# Altium integrated library ON Semi Transient Voltage Suppressors (TVS).IntLib: 730 symbols (part 2 of 17)
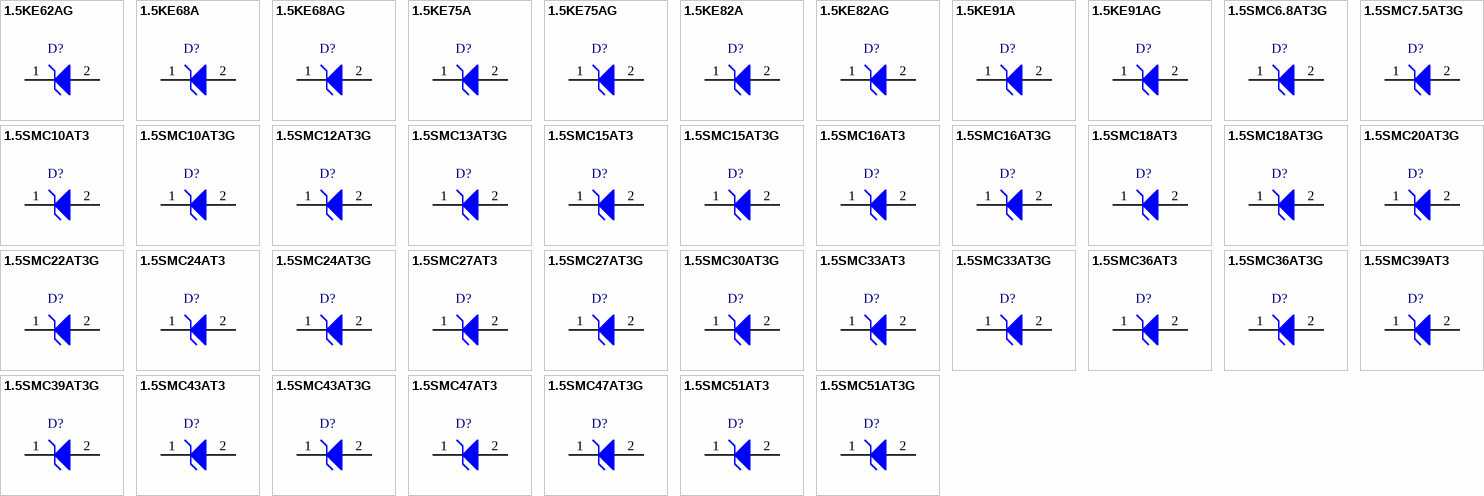
[diagram p19: symbols 1.5KE62AG to 1.5SMC51AT3G]

## 1.5SMC7.5AT3G
designator D?
1500 W Peak Power Zener Transient Voltage Suppressor, Unidirectional, 2-Pin SMC, Pb-Free, Tape and Reel; Manufacturer: On Semiconductor; PartNumber: 1.5SMC7.5AT3G; IR Max (uA): 500; PPK Max (W): 1500; V(BR) Typ (V): 7.5; DatasheetVersion: Rev. 10; PackageVersion: Rev. E, 08/2005; PackageReference: SMC-2-403-03; PackageDescription: 2-Pin Small Molded Package, J-Bend Lead, Body 5.845 x 6.855 mm; Supplier 1: Digi-Key; Supplier Part Number 1: 1.5SMC7.5AT3G-ND; Supplier 2: Newark; Supplier Part Number 2: 42K2809; Supplier 3: Mouser; Supplier Part Number 3: 863-1.5SMC7.5AT3G; Direction: Unidirectional; Packing: Tape and Reel; RoHS: Pb-Free; Mounting Technology: Surface Mount; ComponentLink1Description: Manufacturer URL; ComponentLink1URL: http://www.onsemi.com/; ComponentLink2Description: Datasheet; ComponentLink2URL: http://www.onsemi.com/pub_link/Collateral/1.5SMC6.8AT3-D.PDF; ComponentLink3Description: Package Specification; ComponentLink3URL: http://www.onsemi.com/pub_link/Collateral/403-03.PDF
footprint ONSC-SMC-2-403-03_V (Molded, 2-Leads, Body 6.86x5.84mm)
pins: 1 K, 2 A

## 1.5SMC10AT3
designator D?
1500 W Peak Power Zener Transient Voltage Suppressor, Unidirectional, 2-Pin SMC, Tape and Reel; Manufacturer: On Semiconductor; PartNumber: 1.5SMC10AT3; IR Max (uA): 10; PPK Max (W): 1500; DatasheetVersion: Rev. 10; PackageVersion: Rev. E, 08/2005; PackageReference: SMC-2-403-03; PackageDescription: 2-Pin Small Molded Package, J-Bend Lead, Body 5.845 x 6.855 mm; Direction: Unidirectional; Packing: Tape and Reel; V(BR) Typ (V): 10; Mounting Technology: Surface Mount; ComponentLink1Description: Manufacturer URL; ComponentLink1URL: http://www.onsemi.com/; ComponentLink2Description: Datasheet; ComponentLink2URL: http://www.onsemi.com/pub_link/Collateral/1.5SMC6.8AT3-D.PDF; ComponentLink3Description: Package Specification; ComponentLink3URL: http://www.onsemi.com/pub_link/Collateral/403-03.PDF
footprint ONSC-SMC-2-403-03_V (Molded, 2-Leads, Body 6.86x5.84mm)
pins: 1 K, 2 A

## 1.5SMC10AT3G
designator D?
1500 W Peak Power Zener Transient Voltage Suppressor, Unidirectional, 2-Pin SMC, Pb-Free, Tape and Reel; Manufacturer: On Semiconductor; PartNumber: 1.5SMC10AT3G; IR Max (uA): 10; PPK Max (W): 1500; DatasheetVersion: Rev. 10; PackageVersion: Rev. E, 08/2005; PackageReference: SMC-2-403-03; PackageDescription: 2-Pin Small Molded Package, J-Bend Lead, Body 5.845 x 6.855 mm; Supplier 1: Digi-Key; Supplier Part Number 1: 1.5SMC10AT3G-ND; Supplier 2: Newark; Supplier Part Number 2: 14P0412; Supplier 3: Mouser; Supplier Part Number 3: 863-1.5SMC10AT3G; Direction: Unidirectional; Packing: Tape and Reel; RoHS: Pb-Free; V(BR) Typ (V): 10; Mounting Technology: Surface Mount; ComponentLink1Description: Manufacturer URL; ComponentLink1URL: http://www.onsemi.com/; ComponentLink2Description: Datasheet; ComponentLink2URL: http://www.onsemi.com/pub_link/Collateral/1.5SMC6.8AT3-D.PDF; ComponentLink3Description: Package Specification; ComponentLink3URL: http://www.onsemi.com/pub_link/Collateral/403-03.PDF
footprint ONSC-SMC-2-403-03_V (Molded, 2-Leads, Body 6.86x5.84mm)
pins: 1 K, 2 A

## 1.5SMC12AT3G
designator D?
1500 W Peak Power Zener Transient Voltage Suppressor, Unidirectional, 2-Pin SMC, Pb-Free, Tape and Reel; Manufacturer: On Semiconductor; PartNumber: 1.5SMC12AT3G; IR Max (uA): 5; PPK Max (W): 1500; V(BR) Typ (V): 12; DatasheetVersion: Rev. 10; PackageVersion: Rev. E, 08/2005; PackageReference: SMC-2-403-03; PackageDescription: 2-Pin Small Molded Package, J-Bend Lead, Body 5.845 x 6.855 mm; Supplier 1: Digi-Key; Supplier Part Number 1: 1.5SMC12AT3G-ND; Supplier 2: Newark; Supplier Part Number 2: 42K2799; Supplier 3: Mouser; Supplier Part Number 3: 863-1.5SMC12AT3G; Direction: Unidirectional; Packing: Tape and Reel; RoHS: Pb-Free; Mounting Technology: Surface Mount; ComponentLink1Description: Manufacturer URL; ComponentLink1URL: http://www.onsemi.com/; ComponentLink2Description: Datasheet; ComponentLink2URL: http://www.onsemi.com/pub_link/Collateral/1.5SMC6.8AT3-D.PDF; ComponentLink3Description: Package Specification; ComponentLink3URL: http://www.onsemi.com/pub_link/Collateral/403-03.PDF
footprint ONSC-SMC-2-403-03_V (Molded, 2-Leads, Body 6.86x5.84mm)
pins: 1 K, 2 A

## 1.5SMC13AT3G
designator D?
1500 W Peak Power Zener Transient Voltage Suppressor, Unidirectional, 2-Pin SMC, Pb-Free, Tape and Reel; Manufacturer: On Semiconductor; PartNumber: 1.5SMC13AT3G; IR Max (uA): 5; PPK Max (W): 1500; V(BR) Typ (V): 13; DatasheetVersion: Rev. 10; PackageVersion: Rev. E, 08/2005; PackageReference: SMC-2-403-03; PackageDescription: 2-Pin Small Molded Package, J-Bend Lead, Body 5.845 x 6.855 mm; Supplier 1: Digi-Key; Supplier Part Number 1: 1.5SMC13AT3G-ND; Supplier 2: Newark; Supplier Part Number 2: 42K2800; Supplier 3: Mouser; Supplier Part Number 3: 863-1.5SMC13AT3G; Direction: Unidirectional; Packing: Tape and Reel; RoHS: Pb-Free; Mounting Technology: Surface Mount; ComponentLink1Description: Manufacturer URL; ComponentLink1URL: http://www.onsemi.com/; ComponentLink2Description: Datasheet; ComponentLink2URL: http://www.onsemi.com/pub_link/Collateral/1.5SMC6.8AT3-D.PDF; ComponentLink3Description: Package Specification; ComponentLink3URL: http://www.onsemi.com/pub_link/Collateral/403-03.PDF
footprint ONSC-SMC-2-403-03_V (Molded, 2-Leads, Body 6.86x5.84mm)
pins: 1 K, 2 A

## 1.5SMC15AT3
designator D?
1500 W Peak Power Zener Transient Voltage Suppressor, Unidirectional, 2-Pin SMC, Tape and Reel; Manufacturer: On Semiconductor; PartNumber: 1.5SMC15AT3; IR Max (uA): 5; PPK Max (W): 1500; V(BR) Typ (V): 15; DatasheetVersion: Rev. 10; PackageVersion: Rev. E, 08/2005; PackageReference: SMC-2-403-03; PackageDescription: 2-Pin Small Molded Package, J-Bend Lead, Body 5.845 x 6.855 mm; Supplier 1: Digi-Key; Supplier Part Number 1: 1.5SMC15AT3OSCT-ND; Direction: Unidirectional; Packing: Tape and Reel; Mounting Technology: Surface Mount; ComponentLink1Description: Manufacturer URL; ComponentLink1URL: http://www.onsemi.com/; ComponentLink2Description: Datasheet; ComponentLink2URL: http://www.onsemi.com/pub_link/Collateral/1.5SMC6.8AT3-D.PDF; ComponentLink3Description: Package Specification; ComponentLink3URL: http://www.onsemi.com/pub_link/Collateral/403-03.PDF
footprint ONSC-SMC-2-403-03_V (Molded, 2-Leads, Body 6.86x5.84mm)
pins: 1 K, 2 A

## 1.5SMC15AT3G
designator D?
1500 W Peak Power Zener Transient Voltage Suppressor, Unidirectional, 2-Pin SMC, Pb-Free, Tape and Reel; Manufacturer: On Semiconductor; PartNumber: 1.5SMC15AT3G; IR Max (uA): 5; PPK Max (W): 1500; V(BR) Typ (V): 15; DatasheetVersion: Rev. 10; PackageVersion: Rev. E, 08/2005; PackageReference: SMC-2-403-03; PackageDescription: 2-Pin Small Molded Package, J-Bend Lead, Body 5.845 x 6.855 mm; Supplier 1: Digi-Key; Supplier Part Number 1: 1.5SMC15AT3GOSTR-ND; Supplier 2: Digi-Key; Supplier Part Number 2: 1.5SMC15AT3GOSCT-ND; Supplier 3: Digi-Key; Supplier Part Number 3: 1.5SMC15AT3GOSDKR-ND; Supplier 4: Farnell; Supplier Part Number 4: 1651571RL; Supplier 5: Farnell; Supplier Part Number 5: 1651571; Supplier 6: Newark; Supplier Part Number 6: 88H5158; Supplier 7: Mouser; Supplier Part Number 7: 863-1.5SMC15AT3G; Direction: Unidirectional; Packing: Tape and Reel; RoHS: Pb-Free; Mounting Technology: Surface Mount; ComponentLink1Description: Manufacturer URL; ComponentLink1URL: http://www.onsemi.com/; ComponentLink2Description: Datasheet; ComponentLink2URL: http://www.onsemi.com/pub_link/Collateral/1.5SMC6.8AT3-D.PDF; ComponentLink3Description: Package Specification; ComponentLink3URL: http://www.onsemi.com/pub_link/Collateral/403-03.PDF
footprint ONSC-SMC-2-403-03_V (Molded, 2-Leads, Body 6.86x5.84mm)
pins: 1 K, 2 A

## 1.5SMC16AT3
designator D?
1500 W Peak Power Zener Transient Voltage Suppressor, Unidirectional, 2-Pin SMC, Tape and Reel; Manufacturer: On Semiconductor; PartNumber: 1.5SMC16AT3; IR Max (uA): 5; PPK Max (W): 1500; V(BR) Typ (V): 16; DatasheetVersion: Rev. 10; PackageVersion: Rev. E, 08/2005; PackageReference: SMC-2-403-03; PackageDescription: 2-Pin Small Molded Package, J-Bend Lead, Body 5.845 x 6.855 mm; Direction: Unidirectional; Packing: Tape and Reel; Mounting Technology: Surface Mount; ComponentLink1Description: Manufacturer URL; ComponentLink1URL: http://www.onsemi.com/; ComponentLink2Description: Datasheet; ComponentLink2URL: http://www.onsemi.com/pub_link/Collateral/1.5SMC6.8AT3-D.PDF; ComponentLink3Description: Package Specification; ComponentLink3URL: http://www.onsemi.com/pub_link/Collateral/403-03.PDF
footprint ONSC-SMC-2-403-03_V (Molded, 2-Leads, Body 6.86x5.84mm)
pins: 1 K, 2 A

## 1.5SMC16AT3G
designator D?
1500 W Peak Power Zener Transient Voltage Suppressor, Unidirectional, 2-Pin SMC, Pb-Free, Tape and Reel; Manufacturer: On Semiconductor; PartNumber: 1.5SMC16AT3G; IR Max (uA): 5; PPK Max (W): 1500; V(BR) Typ (V): 16; DatasheetVersion: Rev. 10; PackageVersion: Rev. E, 08/2005; PackageReference: SMC-2-403-03; PackageDescription: 2-Pin Small Molded Package, J-Bend Lead, Body 5.845 x 6.855 mm; Supplier 1: Digi-Key; Supplier Part Number 1: 1.5SMC16AT3GOSTR-ND; Supplier 2: Digi-Key; Supplier Part Number 2: 1.5SMC16AT3GOSCT-ND; Supplier 3: Digi-Key; Supplier Part Number 3: 1.5SMC16AT3GOSDKR-ND; Supplier 4: Newark; Supplier Part Number 4: 26K5235; Supplier 5: Newark; Supplier Part Number 5: 10N9617; Supplier 6: Mouser; Supplier Part Number 6: 863-1.5SMC16AT3G; Direction: Unidirectional; Packing: Tape and Reel; RoHS: Pb-Free; Mounting Technology: Surface Mount; ComponentLink1Description: Manufacturer URL; ComponentLink1URL: http://www.onsemi.com/; ComponentLink2Description: Datasheet; ComponentLink2URL: http://www.onsemi.com/pub_link/Collateral/1.5SMC6.8AT3-D.PDF; ComponentLink3Description: Package Specification; ComponentLink3URL: http://www.onsemi.com/pub_link/Collateral/403-03.PDF
footprint ONSC-SMC-2-403-03_V (Molded, 2-Leads, Body 6.86x5.84mm)
pins: 1 K, 2 A

## 1.5SMC18AT3
designator D?
1500 W Peak Power Zener Transient Voltage Suppressor, Unidirectional, 2-Pin SMC, Tape and Reel; Manufacturer: On Semiconductor; PartNumber: 1.5SMC18AT3; IR Max (uA): 5; PPK Max (W): 1500; V(BR) Typ (V): 18; DatasheetVersion: Rev. 10; PackageVersion: Rev. E, 08/2005; PackageReference: SMC-2-403-03; PackageDescription: 2-Pin Small Molded Package, J-Bend Lead, Body 5.845 x 6.855 mm; Supplier 1: Digi-Key; Supplier Part Number 1: 1.5SMC18AT3OSCT-ND; Direction: Unidirectional; Packing: Tape and Reel; Mounting Technology: Surface Mount; ComponentLink1Description: Manufacturer URL; ComponentLink1URL: http://www.onsemi.com/; ComponentLink2Description: Datasheet; ComponentLink2URL: http://www.onsemi.com/pub_link/Collateral/1.5SMC6.8AT3-D.PDF; ComponentLink3Description: Package Specification; ComponentLink3URL: http://www.onsemi.com/pub_link/Collateral/403-03.PDF
footprint ONSC-SMC-2-403-03_V (Molded, 2-Leads, Body 6.86x5.84mm)
pins: 1 K, 2 A

## 1.5SMC18AT3G
designator D?
1500 W Peak Power Zener Transient Voltage Suppressor, Unidirectional, 2-Pin SMC, Pb-Free, Tape and Reel; Manufacturer: On Semiconductor; PartNumber: 1.5SMC18AT3G; IR Max (uA): 5; PPK Max (W): 1500; V(BR) Typ (V): 18; DatasheetVersion: Rev. 10; PackageVersion: Rev. E, 08/2005; PackageReference: SMC-2-403-03; PackageDescription: 2-Pin Small Molded Package, J-Bend Lead, Body 5.845 x 6.855 mm; Supplier 1: Digi-Key; Supplier Part Number 1: 1.5SMC18AT3GOSTR-ND; Supplier 2: Digi-Key; Supplier Part Number 2: 1.5SMC18AT3GOSCT-ND; Supplier 3: Digi-Key; Supplier Part Number 3: 1.5SMC18AT3GOSDKR-ND; Supplier 4: Newark; Supplier Part Number 4: 42K2801; Supplier 5: Mouser; Supplier Part Number 5: 863-1.5SMC18AT3G; Direction: Unidirectional; Packing: Tape and Reel; RoHS: Pb-Free; Mounting Technology: Surface Mount; ComponentLink1Description: Manufacturer URL; ComponentLink1URL: http://www.onsemi.com/; ComponentLink2Description: Datasheet; ComponentLink2URL: http://www.onsemi.com/pub_link/Collateral/1.5SMC6.8AT3-D.PDF; ComponentLink3Description: Package Specification; ComponentLink3URL: http://www.onsemi.com/pub_link/Collateral/403-03.PDF
footprint ONSC-SMC-2-403-03_V (Molded, 2-Leads, Body 6.86x5.84mm)
pins: 1 K, 2 A

## 1.5SMC20AT3G
designator D?
1500 W Peak Power Zener Transient Voltage Suppressor, Unidirectional, 2-Pin SMC, Pb-Free, Tape and Reel; Manufacturer: On Semiconductor; PartNumber: 1.5SMC20AT3G; IR Max (uA): 5; PPK Max (W): 1500; V(BR) Typ (V): 20; DatasheetVersion: Rev. 10; PackageVersion: Rev. E, 08/2005; PackageReference: SMC-2-403-03; PackageDescription: 2-Pin Small Molded Package, J-Bend Lead, Body 5.845 x 6.855 mm; Supplier 1: Digi-Key; Supplier Part Number 1: 1.5SMC20AT3GOSTR-ND; Supplier 2: Digi-Key; Supplier Part Number 2: 1.5SMC20AT3GOSCT-ND; Supplier 3: Digi-Key; Supplier Part Number 3: 1.5SMC20AT3GOSDKR-ND; Supplier 4: Newark; Supplier Part Number 4: 02M6929; Supplier 5: Mouser; Supplier Part Number 5: 863-1.5SMC20AT3G; Direction: Unidirectional; Packing: Tape and Reel; RoHS: Pb-Free; Mounting Technology: Surface Mount; ComponentLink1Description: Manufacturer URL; ComponentLink1URL: http://www.onsemi.com/; ComponentLink2Description: Datasheet; ComponentLink2URL: http://www.onsemi.com/pub_link/Collateral/1.5SMC6.8AT3-D.PDF; ComponentLink3Description: Package Specification; ComponentLink3URL: http://www.onsemi.com/pub_link/Collateral/403-03.PDF
footprint ONSC-SMC-2-403-03_V (Molded, 2-Leads, Body 6.86x5.84mm)
pins: 1 K, 2 A

## 1.5SMC22AT3G
designator D?
1500 W Peak Power Zener Transient Voltage Suppressor, Unidirectional, 2-Pin SMC, Pb-Free, Tape and Reel; Manufacturer: On Semiconductor; PartNumber: 1.5SMC22AT3G; IR Max (uA): 5; PPK Max (W): 1500; V(BR) Typ (V): 22; DatasheetVersion: Rev. 10; PackageVersion: Rev. E, 08/2005; PackageReference: SMC-2-403-03; PackageDescription: 2-Pin Small Molded Package, J-Bend Lead, Body 5.845 x 6.855 mm; Supplier 1: Digi-Key; Supplier Part Number 1: 1.5SMC22AT3GOSTR-ND; Supplier 2: Digi-Key; Supplier Part Number 2: 1.5SMC22AT3GOSCT-ND; Supplier 3: Digi-Key; Supplier Part Number 3: 1.5SMC22AT3GOSDKR-ND; Supplier 4: Farnell; Supplier Part Number 4: 1899529; Supplier 5: Newark; Supplier Part Number 5: 09R9745; Supplier 6: Mouser; Supplier Part Number 6: 863-1.5SMC22AT3G; Direction: Unidirectional; Packing: Tape and Reel; RoHS: Pb-Free; Mounting Technology: Surface Mount; ComponentLink1Description: Manufacturer URL; ComponentLink1URL: http://www.onsemi.com/; ComponentLink2Description: Datasheet; ComponentLink2URL: http://www.onsemi.com/pub_link/Collateral/1.5SMC6.8AT3-D.PDF; ComponentLink3Description: Package Specification; ComponentLink3URL: http://www.onsemi.com/pub_link/Collateral/403-03.PDF
footprint ONSC-SMC-2-403-03_V (Molded, 2-Leads, Body 6.86x5.84mm)
pins: 1 K, 2 A

## 1.5SMC24AT3
designator D?
1500 W Peak Power Zener Transient Voltage Suppressor, Unidirectional, 2-Pin SMC, Tape and Reel; Manufacturer: On Semiconductor; PartNumber: 1.5SMC24AT3; IR Max (uA): 5; PPK Max (W): 1500; V(BR) Typ (V): 24; DatasheetVersion: Rev. 10; PackageVersion: Rev. E, 08/2005; PackageReference: SMC-2-403-03; PackageDescription: 2-Pin Small Molded Package, J-Bend Lead, Body 5.845 x 6.855 mm; Supplier 1: Digi-Key; Supplier Part Number 1: 1.5SMC24AT3OSTR-ND; Supplier 2: Digi-Key; Supplier Part Number 2: 1.5SMC24AT3OSCT-ND; Direction: Unidirectional; Packing: Tape and Reel; Mounting Technology: Surface Mount; ComponentLink1Description: Manufacturer URL; ComponentLink1URL: http://www.onsemi.com/; ComponentLink2Description: Datasheet; ComponentLink2URL: http://www.onsemi.com/pub_link/Collateral/1.5SMC6.8AT3-D.PDF; ComponentLink3Description: Package Specification; ComponentLink3URL: http://www.onsemi.com/pub_link/Collateral/403-03.PDF
footprint ONSC-SMC-2-403-03_V (Molded, 2-Leads, Body 6.86x5.84mm)
pins: 1 K, 2 A

## 1.5SMC24AT3G
designator D?
1500 W Peak Power Zener Transient Voltage Suppressor, Unidirectional, 2-Pin SMC, Pb-Free, Tape and Reel; Manufacturer: On Semiconductor; PartNumber: 1.5SMC24AT3G; IR Max (uA): 5; PPK Max (W): 1500; V(BR) Typ (V): 24; DatasheetVersion: Rev. 10; PackageVersion: Rev. E, 08/2005; PackageReference: SMC-2-403-03; PackageDescription: 2-Pin Small Molded Package, J-Bend Lead, Body 5.845 x 6.855 mm; Supplier 1: Digi-Key; Supplier Part Number 1: 1.5SMC24AT3GOSTR-ND; Supplier 2: Digi-Key; Supplier Part Number 2: 1.5SMC24AT3GOSCT-ND; Supplier 3: Digi-Key; Supplier Part Number 3: 1.5SMC24AT3GOSDKR-ND; Supplier 4: Newark; Supplier Part Number 4: 45J2396; Supplier 5: Mouser; Supplier Part Number 5: 863-1.5SMC24AT3G; Direction: Unidirectional; Packing: Tape and Reel; RoHS: Pb-Free; Mounting Technology: Surface Mount; ComponentLink1Description: Manufacturer URL; ComponentLink1URL: http://www.onsemi.com/; ComponentLink2Description: Datasheet; ComponentLink2URL: http://www.onsemi.com/pub_link/Collateral/1.5SMC6.8AT3-D.PDF; ComponentLink3Description: Package Specification; ComponentLink3URL: http://www.onsemi.com/pub_link/Collateral/403-03.PDF
footprint ONSC-SMC-2-403-03_V (Molded, 2-Leads, Body 6.86x5.84mm)
pins: 1 K, 2 A

## 1.5SMC27AT3
designator D?
1500 W Peak Power Zener Transient Voltage Suppressor, Unidirectional, 2-Pin SMC, Tape and Reel; Manufacturer: On Semiconductor; PartNumber: 1.5SMC27AT3; IR Max (uA): 5; PPK Max (W): 1500; V(BR) Typ (V): 27; DatasheetVersion: Rev. 10; PackageVersion: Rev. E, 08/2005; PackageReference: SMC-2-403-03; PackageDescription: 2-Pin Small Molded Package, J-Bend Lead, Body 5.845 x 6.855 mm; Supplier 1: Digi-Key; Supplier Part Number 1: 1.5SMC27AT3OSTR-ND; Supplier 2: Digi-Key; Supplier Part Number 2: 1.5SMC27AT3OSCT-ND; Direction: Unidirectional; Packing: Tape and Reel; Mounting Technology: Surface Mount; ComponentLink1Description: Manufacturer URL; ComponentLink1URL: http://www.onsemi.com/; ComponentLink2Description: Datasheet; ComponentLink2URL: http://www.onsemi.com/pub_link/Collateral/1.5SMC6.8AT3-D.PDF; ComponentLink3Description: Package Specification; ComponentLink3URL: http://www.onsemi.com/pub_link/Collateral/403-03.PDF
footprint ONSC-SMC-2-403-03_V (Molded, 2-Leads, Body 6.86x5.84mm)
pins: 1 K, 2 A

## 1.5SMC27AT3G
designator D?
1500 W Peak Power Zener Transient Voltage Suppressor, Unidirectional, 2-Pin SMC, Pb-Free, Tape and Reel; Manufacturer: On Semiconductor; PartNumber: 1.5SMC27AT3G; IR Max (uA): 5; PPK Max (W): 1500; V(BR) Typ (V): 27; DatasheetVersion: Rev. 10; PackageVersion: Rev. E, 08/2005; PackageReference: SMC-2-403-03; PackageDescription: 2-Pin Small Molded Package, J-Bend Lead, Body 5.845 x 6.855 mm; Supplier 1: Digi-Key; Supplier Part Number 1: 1.5SMC27AT3GOSTR-ND; Supplier 2: Digi-Key; Supplier Part Number 2: 1.5SMC27AT3GOSCT-ND; Supplier 3: Digi-Key; Supplier Part Number 3: 1.5SMC27AT3GOSDKR-ND; Supplier 4: Newark; Supplier Part Number 4: 42K2802; Supplier 5: Mouser; Supplier Part Number 5: 863-1.5SMC27AT3G; Direction: Unidirectional; Packing: Tape and Reel; RoHS: Pb-Free; Mounting Technology: Surface Mount; ComponentLink1Description: Manufacturer URL; ComponentLink1URL: http://www.onsemi.com/; ComponentLink2Description: Datasheet; ComponentLink2URL: http://www.onsemi.com/pub_link/Collateral/1.5SMC6.8AT3-D.PDF; ComponentLink3Description: Package Specification; ComponentLink3URL: http://www.onsemi.com/pub_link/Collateral/403-03.PDF
footprint ONSC-SMC-2-403-03_V (Molded, 2-Leads, Body 6.86x5.84mm)
pins: 1 K, 2 A

## 1.5SMC30AT3G
designator D?
1500 W Peak Power Zener Transient Voltage Suppressor, Unidirectional, 2-Pin SMC, Pb-Free, Tape and Reel; Manufacturer: On Semiconductor; PartNumber: 1.5SMC30AT3G; IR Max (uA): 5; PPK Max (W): 1500; V(BR) Typ (V): 30; DatasheetVersion: Rev. 10; PackageVersion: Rev. E, 08/2005; PackageReference: SMC-2-403-03; PackageDescription: 2-Pin Small Molded Package, J-Bend Lead, Body 5.845 x 6.855 mm; Supplier 1: Digi-Key; Supplier Part Number 1: 1.5SMC30AT3GOSTR-ND; Supplier 2: Digi-Key; Supplier Part Number 2: 1.5SMC30AT3GOSCT-ND; Supplier 3: Digi-Key; Supplier Part Number 3: 1.5SMC30AT3GOSDKR-ND; Supplier 4: Farnell; Supplier Part Number 4: 1136176; Supplier 5: Newark; Supplier Part Number 5: 45J2397; Supplier 6: Mouser; Supplier Part Number 6: 863-1.5SMC30AT3G; Direction: Unidirectional; Packing: Tape and Reel; RoHS: Pb-Free; Mounting Technology: Surface Mount; ComponentLink1Description: Manufacturer URL; ComponentLink1URL: http://www.onsemi.com/; ComponentLink2Description: Datasheet; ComponentLink2URL: http://www.onsemi.com/pub_link/Collateral/1.5SMC6.8AT3-D.PDF; ComponentLink3Description: Package Specification; ComponentLink3URL: http://www.onsemi.com/pub_link/Collateral/403-03.PDF
footprint ONSC-SMC-2-403-03_V (Molded, 2-Leads, Body 6.86x5.84mm)
pins: 1 K, 2 A

## 1.5SMC33AT3
designator D?
1500 W Peak Power Zener Transient Voltage Suppressor, Unidirectional, 2-Pin SMC, Tape and Reel; Manufacturer: On Semiconductor; PartNumber: 1.5SMC33AT3; IR Max (uA): 5; PPK Max (W): 1500; V(BR) Typ (V): 33; DatasheetVersion: Rev. 10; PackageVersion: Rev. E, 08/2005; PackageReference: SMC-2-403-03; PackageDescription: 2-Pin Small Molded Package, J-Bend Lead, Body 5.845 x 6.855 mm; Supplier 1: Digi-Key; Supplier Part Number 1: 1.5SMC33AT3OSCT-ND; Direction: Unidirectional; Packing: Tape and Reel; Mounting Technology: Surface Mount; ComponentLink1Description: Manufacturer URL; ComponentLink1URL: http://www.onsemi.com/; ComponentLink2Description: Datasheet; ComponentLink2URL: http://www.onsemi.com/pub_link/Collateral/1.5SMC6.8AT3-D.PDF; ComponentLink3Description: Package Specification; ComponentLink3URL: http://www.onsemi.com/pub_link/Collateral/403-03.PDF
footprint ONSC-SMC-2-403-03_V (Molded, 2-Leads, Body 6.86x5.84mm)
pins: 1 K, 2 A

## 1.5SMC33AT3G
designator D?
1500 W Peak Power Zener Transient Voltage Suppressor, Unidirectional, 2-Pin SMC, Pb-Free, Tape and Reel; Manufacturer: On Semiconductor; PartNumber: 1.5SMC33AT3G; IR Max (uA): 5; PPK Max (W): 1500; V(BR) Typ (V): 33; DatasheetVersion: Rev. 10; PackageVersion: Rev. E, 08/2005; PackageReference: SMC-2-403-03; PackageDescription: 2-Pin Small Molded Package, J-Bend Lead, Body 5.845 x 6.855 mm; Supplier 1: Digi-Key; Supplier Part Number 1: 1.5SMC33AT3GOSTR-ND; Supplier 2: Digi-Key; Supplier Part Number 2: 1.5SMC33AT3GOSCT-ND; Supplier 3: Digi-Key; Supplier Part Number 3: 1.5SMC33AT3GOSDKR-ND; Supplier 4: Farnell; Supplier Part Number 4: 1611273; Supplier 5: Farnell; Supplier Part Number 5: 1611273RL; Supplier 6: Newark; Supplier Part Number 6: 88H5159; Supplier 7: Mouser; Supplier Part Number 7: 863-1.5SMC33AT3G; Direction: Unidirectional; Packing: Tape and Reel; RoHS: Pb-Free; Mounting Technology: Surface Mount; ComponentLink1Description: Manufacturer URL; ComponentLink1URL: http://www.onsemi.com/; ComponentLink2Description: Datasheet; ComponentLink2URL: http://www.onsemi.com/pub_link/Collateral/1.5SMC6.8AT3-D.PDF; ComponentLink3Description: Package Specification; ComponentLink3URL: http://www.onsemi.com/pub_link/Collateral/403-03.PDF
footprint ONSC-SMC-2-403-03_V (Molded, 2-Leads, Body 6.86x5.84mm)
pins: 1 K, 2 A

## 1.5SMC36AT3
designator D?
1500 W Peak Power Zener Transient Voltage Suppressor, Unidirectional, 2-Pin SMC, Tape and Reel; Manufacturer: On Semiconductor; PartNumber: 1.5SMC36AT3; IR Max (uA): 5; PPK Max (W): 1500; V(BR) Typ (V): 36; DatasheetVersion: Rev. 10; PackageVersion: Rev. E, 08/2005; PackageReference: SMC-2-403-03; PackageDescription: 2-Pin Small Molded Package, J-Bend Lead, Body 5.845 x 6.855 mm; Supplier 1: Digi-Key; Supplier Part Number 1: 1.5SMC36AT3OSTR-ND; Supplier 2: Digi-Key; Supplier Part Number 2: 1.5SMC36AT3OSCT-ND; Direction: Unidirectional; Packing: Tape and Reel; Mounting Technology: Surface Mount; ComponentLink1Description: Manufacturer URL; ComponentLink1URL: http://www.onsemi.com/; ComponentLink2Description: Datasheet; ComponentLink2URL: http://www.onsemi.com/pub_link/Collateral/1.5SMC6.8AT3-D.PDF; ComponentLink3Description: Package Specification; ComponentLink3URL: http://www.onsemi.com/pub_link/Collateral/403-03.PDF
footprint ONSC-SMC-2-403-03_V (Molded, 2-Leads, Body 6.86x5.84mm)
pins: 1 K, 2 A

## 1.5SMC36AT3G
designator D?
1500 W Peak Power Zener Transient Voltage Suppressor, Unidirectional, 2-Pin SMC, Pb-Free, Tape and Reel; Manufacturer: On Semiconductor; PartNumber: 1.5SMC36AT3G; IR Max (uA): 5; PPK Max (W): 1500; V(BR) Typ (V): 36; DatasheetVersion: Rev. 10; PackageVersion: Rev. E, 08/2005; PackageReference: SMC-2-403-03; PackageDescription: 2-Pin Small Molded Package, J-Bend Lead, Body 5.845 x 6.855 mm; Supplier 1: Digi-Key; Supplier Part Number 1: 1.5SMC36AT3GOSTR-ND; Supplier 2: Digi-Key; Supplier Part Number 2: 1.5SMC36AT3GOSCT-ND; Supplier 3: Digi-Key; Supplier Part Number 3: 1.5SMC36AT3GOSDKR-ND; Supplier 4: Farnell; Supplier Part Number 4: 1651633; Supplier 5: Farnell; Supplier Part Number 5: 1651633RL; Supplier 6: Newark; Supplier Part Number 6: 42K2803; Supplier 7: Mouser; Supplier Part Number 7: 863-1.5SMC36AT3G; Direction: Unidirectional; Packing: Tape and Reel; RoHS: Pb-Free; Mounting Technology: Surface Mount; ComponentLink1Description: Manufacturer URL; ComponentLink1URL: http://www.onsemi.com/; ComponentLink2Description: Datasheet; ComponentLink2URL: http://www.onsemi.com/pub_link/Collateral/1.5SMC6.8AT3-D.PDF; ComponentLink3Description: Package Specification; ComponentLink3URL: http://www.onsemi.com/pub_link/Collateral/403-03.PDF
footprint ONSC-SMC-2-403-03_V (Molded, 2-Leads, Body 6.86x5.84mm)
pins: 1 K, 2 A

## 1.5SMC39AT3
designator D?
1500 W Peak Power Zener Transient Voltage Suppressor, Unidirectional, 2-Pin SMC, Tape and Reel; Manufacturer: On Semiconductor; PartNumber: 1.5SMC39AT3; IR Max (uA): 5; PPK Max (W): 1500; V(BR) Typ (V): 39; DatasheetVersion: Rev. 10; PackageVersion: Rev. E, 08/2005; PackageReference: SMC-2-403-03; PackageDescription: 2-Pin Small Molded Package, J-Bend Lead, Body 5.845 x 6.855 mm; Supplier 1: Digi-Key; Supplier Part Number 1: 1.5SMC39AT3OSTR-ND; Supplier 2: Digi-Key; Supplier Part Number 2: 1.5SMC39AT3OSCT-ND; Direction: Unidirectional; Packing: Tape and Reel; Mounting Technology: Surface Mount; ComponentLink1Description: Manufacturer URL; ComponentLink1URL: http://www.onsemi.com/; ComponentLink2Description: Datasheet; ComponentLink2URL: http://www.onsemi.com/pub_link/Collateral/1.5SMC6.8AT3-D.PDF; ComponentLink3Description: Package Specification; ComponentLink3URL: http://www.onsemi.com/pub_link/Collateral/403-03.PDF
footprint ONSC-SMC-2-403-03_V (Molded, 2-Leads, Body 6.86x5.84mm)
pins: 1 K, 2 A

## 1.5SMC39AT3G
designator D?
1500 W Peak Power Zener Transient Voltage Suppressor, Unidirectional, 2-Pin SMC, Pb-Free, Tape and Reel; Manufacturer: On Semiconductor; PartNumber: 1.5SMC39AT3G; IR Max (uA): 5; PPK Max (W): 1500; V(BR) Typ (V): 39; DatasheetVersion: Rev. 10; PackageVersion: Rev. E, 08/2005; PackageReference: SMC-2-403-03; PackageDescription: 2-Pin Small Molded Package, J-Bend Lead, Body 5.845 x 6.855 mm; Supplier 1: Digi-Key; Supplier Part Number 1: 1.5SMC39AT3GOSTR-ND; Supplier 2: Digi-Key; Supplier Part Number 2: 1.5SMC39AT3GOSCT-ND; Supplier 3: Digi-Key; Supplier Part Number 3: 1.5SMC39AT3GOSDKR-ND; Supplier 4: Farnell; Supplier Part Number 4: 1147744; Supplier 5: Newark; Supplier Part Number 5: 42K2804; Supplier 6: Mouser; Supplier Part Number 6: 863-1.5SMC39AT3G; Direction: Unidirectional; Packing: Tape and Reel; RoHS: Pb-Free; Mounting Technology: Surface Mount; ComponentLink1Description: Manufacturer URL; ComponentLink1URL: http://www.onsemi.com/; ComponentLink2Description: Datasheet; ComponentLink2URL: http://www.onsemi.com/pub_link/Collateral/1.5SMC6.8AT3-D.PDF; ComponentLink3Description: Package Specification; ComponentLink3URL: http://www.onsemi.com/pub_link/Collateral/403-03.PDF
footprint ONSC-SMC-2-403-03_V (Molded, 2-Leads, Body 6.86x5.84mm)
pins: 1 K, 2 A

## 1.5SMC43AT3
designator D?
1500 W Peak Power Zener Transient Voltage Suppressor, Unidirectional, 2-Pin SMC, Tape and Reel; Manufacturer: On Semiconductor; PartNumber: 1.5SMC43AT3; IR Max (uA): 5; PPK Max (W): 1500; V(BR) Typ (V): 43; DatasheetVersion: Rev. 10; PackageVersion: Rev. E, 08/2005; PackageReference: SMC-2-403-03; PackageDescription: 2-Pin Small Molded Package, J-Bend Lead, Body 5.845 x 6.855 mm; Supplier 1: Digi-Key; Supplier Part Number 1: 1.5SMC43AT3OSTR-ND; Supplier 2: Digi-Key; Supplier Part Number 2: 1.5SMC43AT3OSCT-ND; Direction: Unidirectional; Packing: Tape and Reel; Mounting Technology: Surface Mount; ComponentLink1Description: Manufacturer URL; ComponentLink1URL: http://www.onsemi.com/; ComponentLink2Description: Datasheet; ComponentLink2URL: http://www.onsemi.com/pub_link/Collateral/1.5SMC6.8AT3-D.PDF; ComponentLink3Description: Package Specification; ComponentLink3URL: http://www.onsemi.com/pub_link/Collateral/403-03.PDF
footprint ONSC-SMC-2-403-03_V (Molded, 2-Leads, Body 6.86x5.84mm)
pins: 1 K, 2 A

## 1.5SMC43AT3G
designator D?
1500 W Peak Power Zener Transient Voltage Suppressor, Unidirectional, 2-Pin SMC, Pb-Free, Tape and Reel; Manufacturer: On Semiconductor; PartNumber: 1.5SMC43AT3G; IR Max (uA): 5; PPK Max (W): 1500; V(BR) Typ (V): 43; DatasheetVersion: Rev. 10; PackageVersion: Rev. E, 08/2005; PackageReference: SMC-2-403-03; PackageDescription: 2-Pin Small Molded Package, J-Bend Lead, Body 5.845 x 6.855 mm; Supplier 1: Digi-Key; Supplier Part Number 1: 1.5SMC43AT3GOSTR-ND; Supplier 2: Digi-Key; Supplier Part Number 2: 1.5SMC43AT3GOSCT-ND; Supplier 3: Digi-Key; Supplier Part Number 3: 1.5SMC43AT3GOSDKR-ND; Supplier 4: Newark; Supplier Part Number 4: 42K2805; Supplier 5: Mouser; Supplier Part Number 5: 863-1.5SMC43AT3G; Direction: Unidirectional; Packing: Tape and Reel; RoHS: Pb-Free; Mounting Technology: Surface Mount; ComponentLink1Description: Manufacturer URL; ComponentLink1URL: http://www.onsemi.com/; ComponentLink2Description: Datasheet; ComponentLink2URL: http://www.onsemi.com/pub_link/Collateral/1.5SMC6.8AT3-D.PDF; ComponentLink3Description: Package Specification; ComponentLink3URL: http://www.onsemi.com/pub_link/Collateral/403-03.PDF
footprint ONSC-SMC-2-403-03_V (Molded, 2-Leads, Body 6.86x5.84mm)
pins: 1 K, 2 A

## 1.5SMC47AT3
designator D?
1500 W Peak Power Zener Transient Voltage Suppressor, Unidirectional, 2-Pin SMC, Tape and Reel; Manufacturer: On Semiconductor; PartNumber: 1.5SMC47AT3; IR Max (uA): 5; PPK Max (W): 1500; V(BR) Typ (V): 47; DatasheetVersion: Rev. 10; PackageVersion: Rev. E, 08/2005; PackageReference: SMC-2-403-03; PackageDescription: 2-Pin Small Molded Package, J-Bend Lead, Body 5.845 x 6.855 mm; Direction: Unidirectional; Packing: Tape and Reel; Mounting Technology: Surface Mount; ComponentLink1Description: Manufacturer URL; ComponentLink1URL: http://www.onsemi.com/; ComponentLink2Description: Datasheet; ComponentLink2URL: http://www.onsemi.com/pub_link/Collateral/1.5SMC6.8AT3-D.PDF; ComponentLink3Description: Package Specification; ComponentLink3URL: http://www.onsemi.com/pub_link/Collateral/403-03.PDF
footprint ONSC-SMC-2-403-03_V (Molded, 2-Leads, Body 6.86x5.84mm)
pins: 1 K, 2 A

## 1.5SMC47AT3G
designator D?
1500 W Peak Power Zener Transient Voltage Suppressor, Unidirectional, 2-Pin SMC, Pb-Free, Tape and Reel; Manufacturer: On Semiconductor; PartNumber: 1.5SMC47AT3G; IR Max (uA): 5; PPK Max (W): 1500; V(BR) Typ (V): 47; DatasheetVersion: Rev. 10; PackageVersion: Rev. E, 08/2005; PackageReference: SMC-2-403-03; PackageDescription: 2-Pin Small Molded Package, J-Bend Lead, Body 5.845 x 6.855 mm; Supplier 1: Digi-Key; Supplier Part Number 1: 1.5SMC47AT3GOSTR-ND; Supplier 2: Digi-Key; Supplier Part Number 2: 1.5SMC47AT3GOSCT-ND; Supplier 3: Digi-Key; Supplier Part Number 3: 1.5SMC47AT3GOSDKR-ND; Supplier 4: Farnell; Supplier Part Number 4: 1705765; Supplier 5: Newark; Supplier Part Number 5: 10N9734; Supplier 6: Mouser; Supplier Part Number 6: 863-1.5SMC47AT3G; Direction: Unidirectional; Packing: Tape and Reel; RoHS: Pb-Free; Mounting Technology: Surface Mount; ComponentLink1Description: Manufacturer URL; ComponentLink1URL: http://www.onsemi.com/; ComponentLink2Description: Datasheet; ComponentLink2URL: http://www.onsemi.com/pub_link/Collateral/1.5SMC6.8AT3-D.PDF; ComponentLink3Description: Package Specification; ComponentLink3URL: http://www.onsemi.com/pub_link/Collateral/403-03.PDF
footprint ONSC-SMC-2-403-03_V (Molded, 2-Leads, Body 6.86x5.84mm)
pins: 1 K, 2 A

## 1.5SMC51AT3
designator D?
1500 W Peak Power Zener Transient Voltage Suppressor, Unidirectional, 2-Pin SMC, Tape and Reel; Manufacturer: On Semiconductor; PartNumber: 1.5SMC51AT3; IR Max (uA): 5; PPK Max (W): 1500; V(BR) Typ (V): 51; DatasheetVersion: Rev. 10; PackageVersion: Rev. E, 08/2005; PackageReference: SMC-2-403-03; PackageDescription: 2-Pin Small Molded Package, J-Bend Lead, Body 5.845 x 6.855 mm; Supplier 1: Digi-Key; Supplier Part Number 1: 1.5SMC51AT3-ND; Direction: Unidirectional; Packing: Tape and Reel; Mounting Technology: Surface Mount; ComponentLink1Description: Manufacturer URL; ComponentLink1URL: http://www.onsemi.com/; ComponentLink2Description: Datasheet; ComponentLink2URL: http://www.onsemi.com/pub_link/Collateral/1.5SMC6.8AT3-D.PDF; ComponentLink3Description: Package Specification; ComponentLink3URL: http://www.onsemi.com/pub_link/Collateral/403-03.PDF
footprint ONSC-SMC-2-403-03_V (Molded, 2-Leads, Body 6.86x5.84mm)
pins: 1 K, 2 A

## 1.5SMC51AT3G
designator D?
1500 W Peak Power Zener Transient Voltage Suppressor, Unidirectional, 2-Pin SMC, Pb-Free, Tape and Reel; Manufacturer: On Semiconductor; PartNumber: 1.5SMC51AT3G; IR Max (uA): 5; PPK Max (W): 1500; V(BR) Typ (V): 51; DatasheetVersion: Rev. 10; PackageVersion: Rev. E, 08/2005; PackageReference: SMC-2-403-03; PackageDescription: 2-Pin Small Molded Package, J-Bend Lead, Body 5.845 x 6.855 mm; Supplier 1: Digi-Key; Supplier Part Number 1: 1.5SMC51AT3GOSTR-ND; Supplier 2: Digi-Key; Supplier Part Number 2: 1.5SMC51AT3GOSCT-ND; Supplier 3: Digi-Key; Supplier Part Number 3: 1.5SMC51AT3GOSDKR-ND; Supplier 4: Newark; Supplier Part Number 4: 09R9746; Supplier 5: Newark; Supplier Part Number 5: 42K2807; Supplier 6: Mouser; Supplier Part Number 6: 863-1.5SMC51AT3G; Direction: Unidirectional; Packing: Tape and Reel; RoHS: Pb-Free; Mounting Technology: Surface Mount; ComponentLink1Description: Manufacturer URL; ComponentLink1URL: http://www.onsemi.com/; ComponentLink2Description: Datasheet; ComponentLink2URL: http://www.onsemi.com/pub_link/Collateral/1.5SMC6.8AT3-D.PDF; ComponentLink3Description: Package Specification; ComponentLink3URL: http://www.onsemi.com/pub_link/Collateral/403-03.PDF
footprint ONSC-SMC-2-403-03_V (Molded, 2-Leads, Body 6.86x5.84mm)
pins: 1 K, 2 A

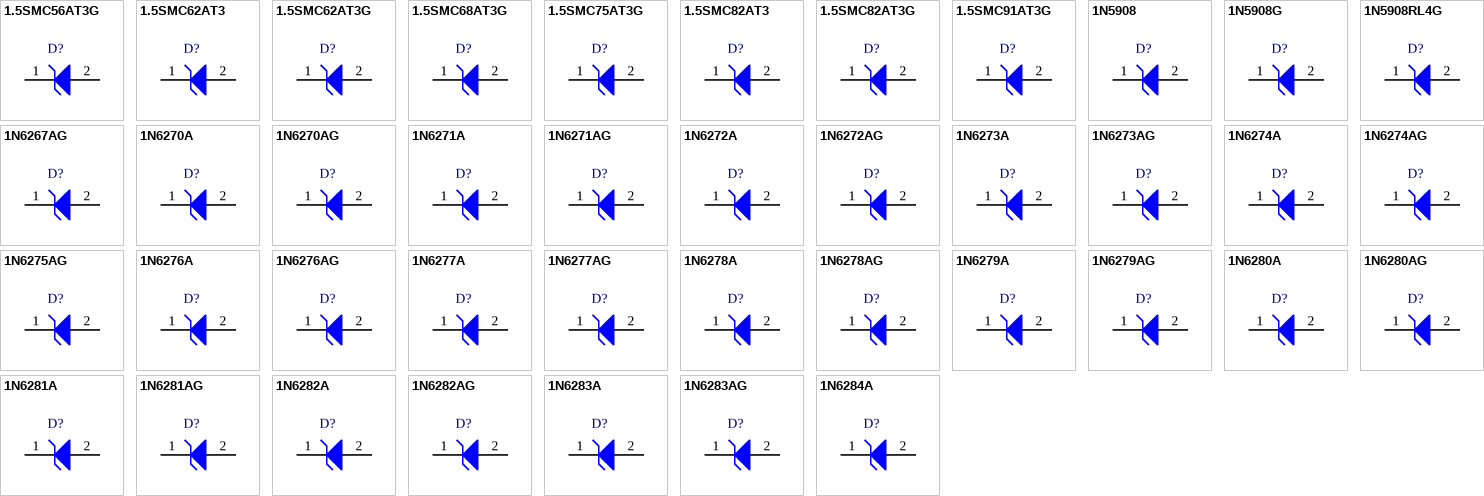
[diagram p2: symbols 1.5SMC56AT3G to 1N6284A]

## 1.5SMC56AT3G
designator D?
1500 W Peak Power Zener Transient Voltage Suppressor, Unidirectional, 2-Pin SMC, Pb-Free, Tape and Reel; Manufacturer: On Semiconductor; PartNumber: 1.5SMC56AT3G; IR Max (uA): 5; PPK Max (W): 1500; V(BR) Typ (V): 56; DatasheetVersion: Rev. 10; PackageVersion: Rev. E, 08/2005; PackageReference: SMC-2-403-03; PackageDescription: 2-Pin Small Molded Package, J-Bend Lead, Body 5.845 x 6.855 mm; Supplier 1: Digi-Key; Supplier Part Number 1: 1.5SMC56AT3GOSTR-ND; Supplier 2: Digi-Key; Supplier Part Number 2: 1.5SMC56AT3GOSCT-ND; Supplier 3: Digi-Key; Supplier Part Number 3: 1.5SMC56AT3GOSDKR-ND; Supplier 4: Newark; Supplier Part Number 4: 71J9139; Supplier 5: Mouser; Supplier Part Number 5: 863-1.5SMC56AT3G; Direction: Unidirectional; Packing: Tape and Reel; RoHS: Pb-Free; Mounting Technology: Surface Mount; ComponentLink1Description: Manufacturer URL; ComponentLink1URL: http://www.onsemi.com/; ComponentLink2Description: Datasheet; ComponentLink2URL: http://www.onsemi.com/pub_link/Collateral/1.5SMC6.8AT3-D.PDF; ComponentLink3Description: Package Specification; ComponentLink3URL: http://www.onsemi.com/pub_link/Collateral/403-03.PDF
footprint ONSC-SMC-2-403-03_V (Molded, 2-Leads, Body 6.86x5.84mm)
pins: 1 K, 2 A

## 1.5SMC62AT3
designator D?
1500 W Peak Power Zener Transient Voltage Suppressor, Unidirectional, 2-Pin SMC, Tape and Reel; Manufacturer: On Semiconductor; PartNumber: 1.5SMC62AT3; IR Max (uA): 5; PPK Max (W): 1500; V(BR) Typ (V): 62; DatasheetVersion: Rev. 10; PackageVersion: Rev. E, 08/2005; PackageReference: SMC-2-403-03; PackageDescription: 2-Pin Small Molded Package, J-Bend Lead, Body 5.845 x 6.855 mm; Supplier 1: Digi-Key; Supplier Part Number 1: 1.5SMC62AT3-ND; Direction: Unidirectional; Packing: Tape and Reel; Mounting Technology: Surface Mount; ComponentLink1Description: Manufacturer URL; ComponentLink1URL: http://www.onsemi.com/; ComponentLink2Description: Datasheet; ComponentLink2URL: http://www.onsemi.com/pub_link/Collateral/1.5SMC6.8AT3-D.PDF; ComponentLink3Description: Package Specification; ComponentLink3URL: http://www.onsemi.com/pub_link/Collateral/403-03.PDF
footprint ONSC-SMC-2-403-03_V (Molded, 2-Leads, Body 6.86x5.84mm)
pins: 1 K, 2 A

## 1.5SMC62AT3G
designator D?
1500 W Peak Power Zener Transient Voltage Suppressor, Unidirectional, 2-Pin SMC, Pb-Free, Tape and Reel; Manufacturer: On Semiconductor; PartNumber: 1.5SMC62AT3G; IR Max (uA): 5; PPK Max (W): 1500; V(BR) Typ (V): 62; DatasheetVersion: Rev. 10; PackageVersion: Rev. E, 08/2005; PackageReference: SMC-2-403-03; PackageDescription: 2-Pin Small Molded Package, J-Bend Lead, Body 5.845 x 6.855 mm; Supplier 1: Digi-Key; Supplier Part Number 1: 1.5SMC62AT3GOSTR-ND; Supplier 2: Digi-Key; Supplier Part Number 2: 1.5SMC62AT3GOSCT-ND; Supplier 3: Digi-Key; Supplier Part Number 3: 1.5SMC62AT3GOSDKR-ND; Supplier 4: Newark; Supplier Part Number 4: 88H5160; Supplier 5: Mouser; Supplier Part Number 5: 863-1.5SMC62AT3G; Direction: Unidirectional; Packing: Tape and Reel; RoHS: Pb-Free; Mounting Technology: Surface Mount; ComponentLink1Description: Manufacturer URL; ComponentLink1URL: http://www.onsemi.com/; ComponentLink2Description: Datasheet; ComponentLink2URL: http://www.onsemi.com/pub_link/Collateral/1.5SMC6.8AT3-D.PDF; ComponentLink3Description: Package Specification; ComponentLink3URL: http://www.onsemi.com/pub_link/Collateral/403-03.PDF
footprint ONSC-SMC-2-403-03_V (Molded, 2-Leads, Body 6.86x5.84mm)
pins: 1 K, 2 A

## 1.5SMC68AT3G
designator D?
1500 W Peak Power Zener Transient Voltage Suppressor, Unidirectional, 2-Pin SMC, Pb-Free, Tape and Reel; Manufacturer: On Semiconductor; PartNumber: 1.5SMC68AT3G; IR Max (uA): 5; PPK Max (W): 1500; V(BR) Typ (V): 68; DatasheetVersion: Rev. 10; PackageVersion: Rev. E, 08/2005; PackageReference: SMC-2-403-03; PackageDescription: 2-Pin Small Molded Package, J-Bend Lead, Body 5.845 x 6.855 mm; Supplier 1: Digi-Key; Supplier Part Number 1: 1.5SMC68AT3GOSTR-ND; Supplier 2: Digi-Key; Supplier Part Number 2: 1.5SMC68AT3GOSCT-ND; Supplier 3: Digi-Key; Supplier Part Number 3: 1.5SMC68AT3GOSDKR-ND; Supplier 4: Farnell; Supplier Part Number 4: 1651573; Supplier 5: Newark; Supplier Part Number 5: 26K5237; Supplier 6: Mouser; Supplier Part Number 6: 863-1.5SMC68AT3G; Direction: Unidirectional; Packing: Tape and Reel; RoHS: Pb-Free; Mounting Technology: Surface Mount; ComponentLink1Description: Manufacturer URL; ComponentLink1URL: http://www.onsemi.com/; ComponentLink2Description: Datasheet; ComponentLink2URL: http://www.onsemi.com/pub_link/Collateral/1.5SMC6.8AT3-D.PDF; ComponentLink3Description: Package Specification; ComponentLink3URL: http://www.onsemi.com/pub_link/Collateral/403-03.PDF
footprint ONSC-SMC-2-403-03_V (Molded, 2-Leads, Body 6.86x5.84mm)
pins: 1 K, 2 A

## 1.5SMC75AT3G
designator D?
1500 W Peak Power Zener Transient Voltage Suppressor, Unidirectional, 2-Pin SMC, Pb-Free, Tape and Reel; Manufacturer: On Semiconductor; PartNumber: 1.5SMC75AT3G; IR Max (uA): 5; PPK Max (W): 1500; V(BR) Typ (V): 75; DatasheetVersion: Rev. 10; PackageVersion: Rev. E, 08/2005; PackageReference: SMC-2-403-03; PackageDescription: 2-Pin Small Molded Package, J-Bend Lead, Body 5.845 x 6.855 mm; Supplier 1: Digi-Key; Supplier Part Number 1: 1.5SMC75AT3GOSTR-ND; Supplier 2: Digi-Key; Supplier Part Number 2: 1.5SMC75AT3GOSCT-ND; Supplier 3: Digi-Key; Supplier Part Number 3: 1.5SMC75AT3GOSDKR-ND; Supplier 4: Newark; Supplier Part Number 4: 42K2810; Supplier 5: Newark; Supplier Part Number 5: 10N9618; Supplier 6: Mouser; Supplier Part Number 6: 863-1.5SMC75AT3G; Direction: Unidirectional; Packing: Tape and Reel; RoHS: Pb-Free; Mounting Technology: Surface Mount; ComponentLink1Description: Manufacturer URL; ComponentLink1URL: http://www.onsemi.com/; ComponentLink2Description: Datasheet; ComponentLink2URL: http://www.onsemi.com/pub_link/Collateral/1.5SMC6.8AT3-D.PDF; ComponentLink3Description: Package Specification; ComponentLink3URL: http://www.onsemi.com/pub_link/Collateral/403-03.PDF
footprint ONSC-SMC-2-403-03_V (Molded, 2-Leads, Body 6.86x5.84mm)
pins: 1 K, 2 A

## 1.5SMC82AT3
designator D?
1500 W Peak Power Zener Transient Voltage Suppressor, Unidirectional, 2-Pin SMC, Tape and Reel; Manufacturer: On Semiconductor; PartNumber: 1.5SMC82AT3; IR Max (uA): 5; PPK Max (W): 1500; V(BR) Typ (V): 82; DatasheetVersion: Rev. 10; PackageVersion: Rev. E, 08/2005; PackageReference: SMC-2-403-03; PackageDescription: 2-Pin Small Molded Package, J-Bend Lead, Body 5.845 x 6.855 mm; Supplier 1: Digi-Key; Supplier Part Number 1: 1.5SMC82AT3-ND; Direction: Unidirectional; Packing: Tape and Reel; Mounting Technology: Surface Mount; ComponentLink1Description: Manufacturer URL; ComponentLink1URL: http://www.onsemi.com/; ComponentLink2Description: Datasheet; ComponentLink2URL: http://www.onsemi.com/pub_link/Collateral/1.5SMC6.8AT3-D.PDF; ComponentLink3Description: Package Specification; ComponentLink3URL: http://www.onsemi.com/pub_link/Collateral/403-03.PDF
footprint ONSC-SMC-2-403-03_V (Molded, 2-Leads, Body 6.86x5.84mm)
pins: 1 K, 2 A

## 1.5SMC82AT3G
designator D?
1500 W Peak Power Zener Transient Voltage Suppressor, Unidirectional, 2-Pin SMC, Pb-Free, Tape and Reel; Manufacturer: On Semiconductor; PartNumber: 1.5SMC82AT3G; IR Max (uA): 5; PPK Max (W): 1500; V(BR) Typ (V): 82; DatasheetVersion: Rev. 10; PackageVersion: Rev. E, 08/2005; PackageReference: SMC-2-403-03; PackageDescription: 2-Pin Small Molded Package, J-Bend Lead, Body 5.845 x 6.855 mm; Supplier 1: Digi-Key; Supplier Part Number 1: 1.5SMC82AT3G-ND; Supplier 2: Farnell; Supplier Part Number 2: 1705855; Supplier 3: Newark; Supplier Part Number 3: 26M8320; Supplier 4: Newark; Supplier Part Number 4: 26K5238; Supplier 5: Mouser; Supplier Part Number 5: 863-1.5SMC82AT3G; Direction: Unidirectional; Packing: Tape and Reel; RoHS: Pb-Free; Mounting Technology: Surface Mount; ComponentLink1Description: Manufacturer URL; ComponentLink1URL: http://www.onsemi.com/; ComponentLink2Description: Datasheet; ComponentLink2URL: http://www.onsemi.com/pub_link/Collateral/1.5SMC6.8AT3-D.PDF; ComponentLink3Description: Package Specification; ComponentLink3URL: http://www.onsemi.com/pub_link/Collateral/403-03.PDF
footprint ONSC-SMC-2-403-03_V (Molded, 2-Leads, Body 6.86x5.84mm)
pins: 1 K, 2 A

## 1.5SMC91AT3G
designator D?
1500 W Peak Power Zener Transient Voltage Suppressor, Unidirectional, 2-Pin SMC, Pb-Free, Tape and Reel; Manufacturer: On Semiconductor; PartNumber: 1.5SMC91AT3G; IR Max (uA): 5; PPK Max (W): 1500; V(BR) Typ (V): 91; DatasheetVersion: Rev. 10; PackageVersion: Rev. E, 08/2005; PackageReference: SMC-2-403-03; PackageDescription: 2-Pin Small Molded Package, J-Bend Lead, Body 5.845 x 6.855 mm; Supplier 1: Digi-Key; Supplier Part Number 1: 1.5SMC91AT3GOSTR-ND; Supplier 2: Digi-Key; Supplier Part Number 2: 1.5SMC91AT3GOSCT-ND; Supplier 3: Digi-Key; Supplier Part Number 3: 1.5SMC91AT3GOSDKR-ND; Supplier 4: Farnell; Supplier Part Number 4: 1150523; Supplier 5: Newark; Supplier Part Number 5: 45J2398; Supplier 6: Mouser; Supplier Part Number 6: 863-1.5SMC91AT3G; Direction: Unidirectional; Packing: Tape and Reel; RoHS: Pb-Free; Mounting Technology: Surface Mount; ComponentLink1Description: Manufacturer URL; ComponentLink1URL: http://www.onsemi.com/; ComponentLink2Description: Datasheet; ComponentLink2URL: http://www.onsemi.com/pub_link/Collateral/1.5SMC6.8AT3-D.PDF; ComponentLink3Description: Package Specification; ComponentLink3URL: http://www.onsemi.com/pub_link/Collateral/403-03.PDF
footprint ONSC-SMC-2-403-03_V (Molded, 2-Leads, Body 6.86x5.84mm)
pins: 1 K, 2 A

## 1N5908
designator D?
1500 W Mosorb(TM) Zener Transient Voltage Suppressor, Unidirectional, 2-Pin MOSORB, Pb-Free, Bulk Box; Manufacturer: On Semiconductor; PartNumber: 1N5908; IR Max (uA): 300; PPK Max (W): 1500; DatasheetVersion: Rev. 5; PackageVersion: Rev. D, 01/2002; PackageReference: MOSORB-2-41A-04; PackageDescription: 2-Pin, Axial Lead, Diameter 5.05 mm; Supplier 1: Digi-Key; Supplier Part Number 1: 1N5908-ND; Direction: Unidirectional; Packing: Bulk Box; RoHS: Pb-Free; Mounting Technology: Through Hole; ComponentLink1Description: Manufacturer URL; ComponentLink1URL: http://www.onsemi.com/; ComponentLink2Description: Datasheet; ComponentLink2URL: http://www.onsemi.com/pub_link/Collateral/1N5908-D.PDF; ComponentLink3Description: Package Specification; ComponentLink3URL: http://www.onsemi.com/pub_link/Collateral/41A-04.PDF
footprint ONSC-MOSORB-2-41A-04 (AXIAL, 2-Leads, Diameter 5.05mm)
pins: 1 K, 2 A

## 1N5908G
designator D?
1500 W Mosorb(TM) Zener Transient Voltage Suppressor, Unidirectional, 2-Pin MOSORB, Pb-Free, Bulk Box; Manufacturer: On Semiconductor; PartNumber: 1N5908G; IR Max (uA): 300; PPK Max (W): 1500; DatasheetVersion: Rev. 5; PackageVersion: Rev. D, 01/2002; PackageReference: MOSORB-2-41A-04; PackageDescription: 2-Pin, Axial Lead, Diameter 5.05 mm; Supplier 1: Digi-Key; Supplier Part Number 1: 1N5908GOS-ND; Supplier 2: Farnell; Supplier Part Number 2: 1458994; Supplier 3: Newark; Supplier Part Number 3: 42K2954; Supplier 4: Mouser; Supplier Part Number 4: 863-1N5908G; Direction: Unidirectional; Packing: Bulk Box; RoHS: Pb-Free; Mounting Technology: Through Hole; ComponentLink1Description: Manufacturer URL; ComponentLink1URL: http://www.onsemi.com/; ComponentLink2Description: Datasheet; ComponentLink2URL: http://www.onsemi.com/pub_link/Collateral/1N5908-D.PDF; ComponentLink3Description: Package Specification; ComponentLink3URL: http://www.onsemi.com/pub_link/Collateral/41A-04.PDF
footprint ONSC-MOSORB-2-41A-04 (AXIAL, 2-Leads, Diameter 5.05mm)
pins: 1 K, 2 A

## 1N5908RL4G
designator D?
1500 W Mosorb(TM) Zener Transient Voltage Suppressor, Unidirectional, 2-Pin MOSORB, Pb-Free, Tape and Reel; Manufacturer: On Semiconductor; PartNumber: 1N5908RL4G; IR Max (uA): 300; PPK Max (W): 1500; DatasheetVersion: Rev. 5; PackageVersion: Rev. D, 01/2002; PackageReference: MOSORB-2-41A-04; PackageDescription: 2-Pin, Axial Lead, Diameter 5.05 mm; Supplier 1: Digi-Key; Supplier Part Number 1: 1N5908RL4GOSTR-ND; Supplier 2: Digi-Key; Supplier Part Number 2: 1N5908RL4GOSCT-ND; Supplier 3: Newark; Supplier Part Number 3: 42K2955; Supplier 4: Mouser; Supplier Part Number 4: 863-1N5908RL4G; Direction: Unidirectional; Packing: Tape and Reel; RoHS: Pb-Free; Mounting Technology: Through Hole; ComponentLink1Description: Manufacturer URL; ComponentLink1URL: http://www.onsemi.com/; ComponentLink2Description: Datasheet; ComponentLink2URL: http://www.onsemi.com/pub_link/Collateral/1N5908-D.PDF; ComponentLink3Description: Package Specification; ComponentLink3URL: http://www.onsemi.com/pub_link/Collateral/41A-04.PDF
footprint ONSC-MOSORB-2-41A-04 (AXIAL, 2-Leads, Diameter 5.05mm)
pins: 1 K, 2 A

## 1N6267AG
designator D?
1500 W Mosorb(TM) Zener Transient Voltage Suppressor, Unidirectional, 2-Pin MOSORB, Pb-Free, Bulk Box; Manufacturer: On Semiconductor; PartNumber: 1N6267AG; IR Max (uA): 1000; PPK Max (W): 1500; V(BR) Typ (V): 6.8; DatasheetVersion: Rev. 13; PackageVersion: Rev. D, 01/2002; PackageReference: MOSORB-2-41A-04; PackageDescription: 2-Pin, Axial Lead, Diameter 5.05 mm; Supplier 1: Digi-Key; Supplier Part Number 1: 1N6267AGOS-ND; Supplier 2: Farnell; Supplier Part Number 2: 1458996; Supplier 3: Newark; Supplier Part Number 3: 42K3000; Supplier 4: Mouser; Supplier Part Number 4: 863-1N6267AG; Direction: Unidirectional; Packing: Bulk Box; RoHS: Pb-Free; Mounting Technology: Through Hole; ComponentLink1Description: Manufacturer URL; ComponentLink1URL: http://www.onsemi.com/; ComponentLink2Description: Datasheet; ComponentLink2URL: http://www.onsemi.com/pub_link/Collateral/1N6267A.PDF; ComponentLink3Description: Package Specification; ComponentLink3URL: http://www.onsemi.com/pub_link/Collateral/41A-04.PDF
footprint ONSC-MOSORB-2-41A-04 (AXIAL, 2-Leads, Diameter 5.05mm)
pins: 1 K, 2 A

## 1N6270A
designator D?
1500 W Mosorb(TM) Zener Transient Voltage Suppressor, Unidirectional, 2-Pin MOSORB, Bulk Box; Manufacturer: On Semiconductor; PartNumber: 1N6270A; IR Max (uA): 50; PPK Max (W): 1500; V(BR) Typ (V): 9.1; DatasheetVersion: Rev. 7; PackageVersion: Rev. D, 01/2002; PackageReference: MOSORB-2-41A-04; PackageDescription: 2-Pin, Axial Lead, Diameter 5.05 mm; Supplier 1: Mouser; Supplier Part Number 1: N/A; Direction: Unidirectional; Packing: Bulk Box; Mounting Technology: Through Hole; ComponentLink1Description: Manufacturer URL; ComponentLink1URL: http://www.onsemi.com/; ComponentLink2Description: Datasheet; ComponentLink2URL: http://www.onsemi.com/pub_link/Collateral/1N6267A-D.PDF; ComponentLink3Description: Package Specification; ComponentLink3URL: http://www.onsemi.com/pub_link/Collateral/41A-04.PDF
footprint ONSC-MOSORB-2-41A-04 (AXIAL, 2-Leads, Diameter 5.05mm)
pins: 1 K, 2 A